# Altium footprint library Button_Switch_THT.PcbLib: 106 footprints (part 2 of 7)
Each footprint in its own frame and in the unit in brackets; x right, y up, seen from the top. Pads: shape width x height; smd on the part's side, far side on the other; paste and mask are expansions set on the pad; w line width, h text height; cw(c..) or ccw(c..) is an arc to the next point about the centre after c.
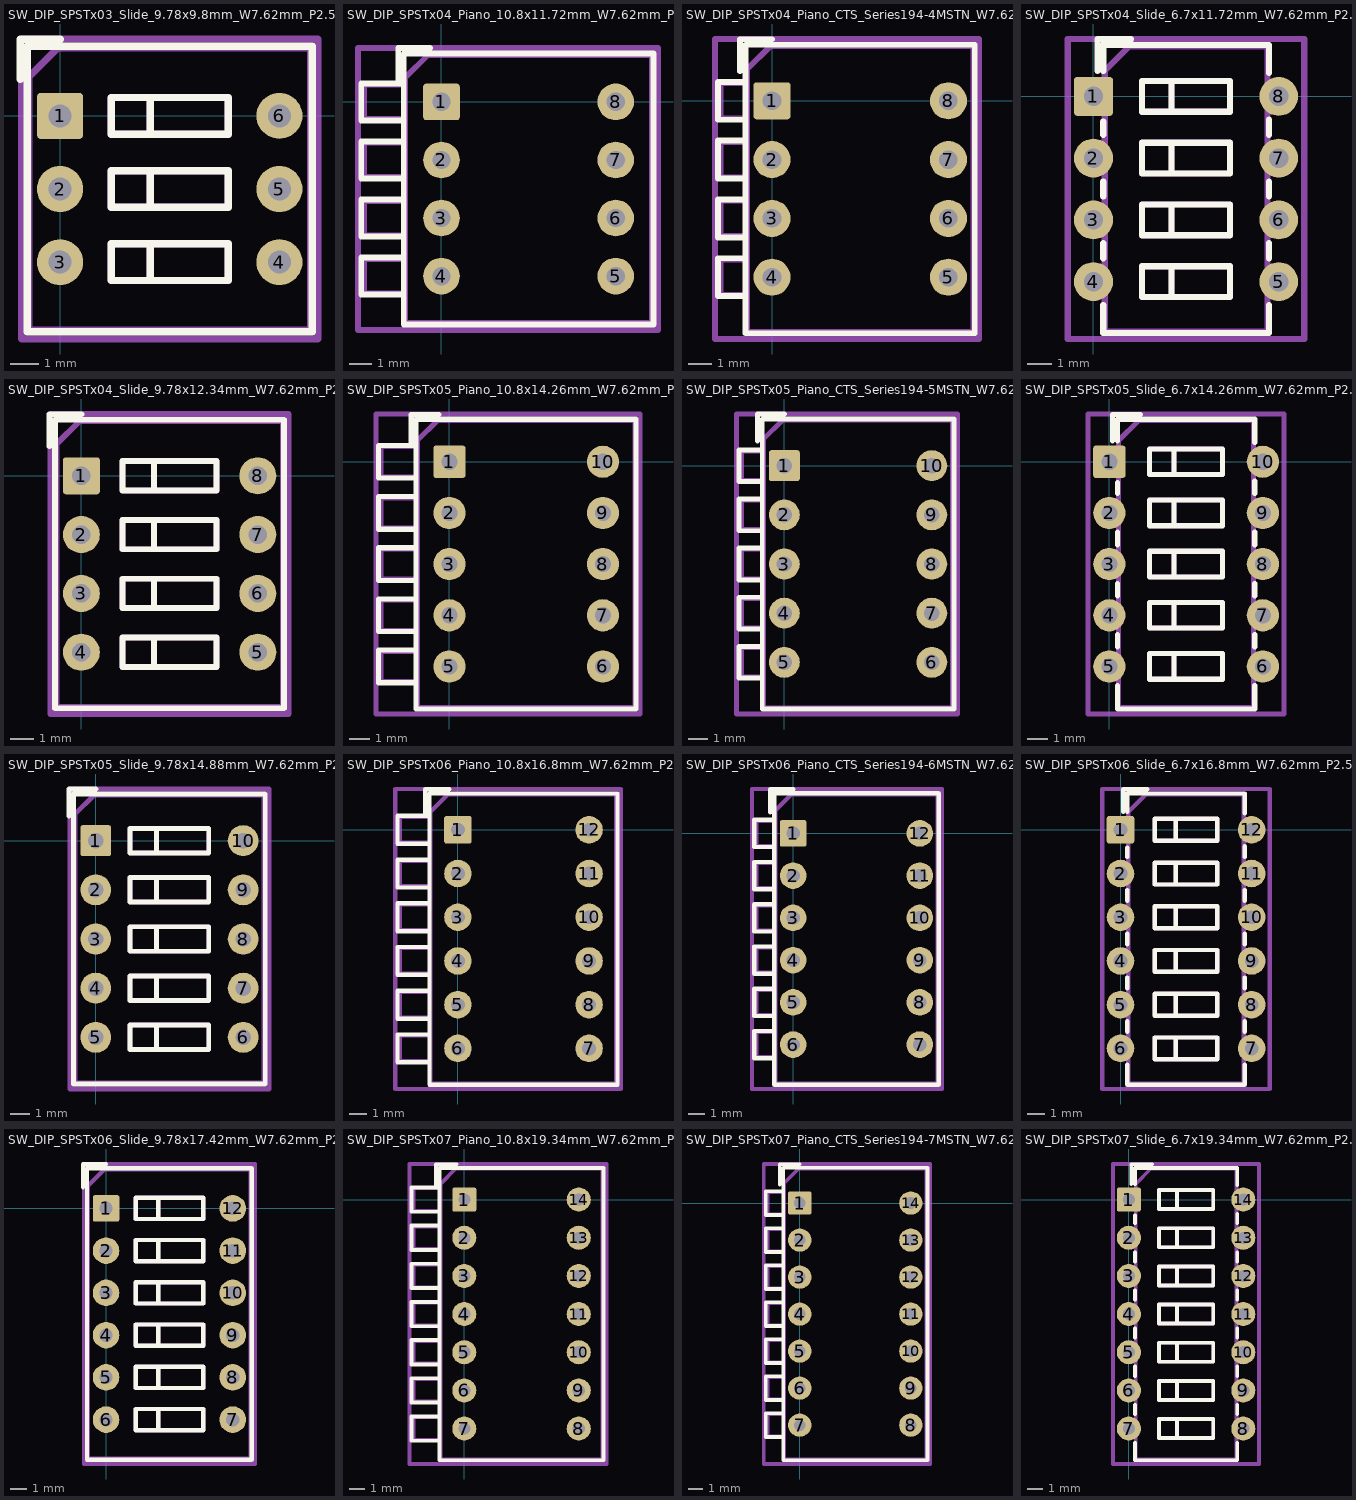
[diagram p1: the footprints below, top view; thin cyan lines are the x and y axes]

## SW_DIP_SPSTx03_Slide_9.78x9.8mm_W7.62mm_P2.54mm [mm]
pads (6):
  rrect16% 1.6x1.6 hole 0.8: 1(0,0)
  round 1.6 hole 0.8: 2(0,-2.54) 3(0,-5.08) 4(7.62,-5.08) 5(7.62,-2.54) 6(7.62,0)
F.SilkS:
  lines w0.254: -1.38,1.277 -1.38,2.66 0.003,2.66 ; 1.78,-5.715 1.78,-4.445 ; 1.78,-5.715 3.133,-5.715 ; 1.78,-5.715 1.78,-4.445 ; 1.78,-5.715 5.84,-5.715 5.84,-4.445 1.78,-4.445 ; 1.78,-4.445 3.133,-4.445 ; 1.78,-3.175 1.78,-1.905 ; 1.78,-3.175 3.133,-3.175 ; 1.78,-3.175 1.78,-1.905 ; 1.78,-3.175 5.84,-3.175 5.84,-1.905 1.78,-1.905 ; 1.78,-1.905 3.133,-1.905 ; 1.78,-0.635 1.78,0.635 ; 1.78,-0.635 3.133,-0.635 ; 1.78,-0.635 1.78,0.635 ; 1.78,-0.635 5.84,-0.635 5.84,0.635 1.78,0.635 ; 1.78,0.635 3.133,0.635 ; 3.133,-5.715 3.133,-4.445 ; 3.133,-5.715 3.133,-4.445 ; 3.133,-3.175 3.133,-1.905 ; 3.133,-3.175 3.133,-1.905 ; 3.133,-0.635 3.133,0.635 ; 3.133,-0.635 3.133,0.635 ; -1.14,-7.5 -1.14,2.42 8.76,2.42 8.76,-7.5 -1.14,-7.5
F.Fab:
  lines w0.254: 1.78,-5.715 1.78,-4.445 ; 1.78,-5.715 3.133,-5.715 ; 1.78,-5.715 1.78,-4.445 ; 1.78,-5.715 5.84,-5.715 5.84,-4.445 1.78,-4.445 ; 1.78,-4.445 3.133,-4.445 ; 1.78,-3.175 1.78,-1.905 ; 1.78,-3.175 3.133,-3.175 ; 1.78,-3.175 1.78,-1.905 ; 1.78,-3.175 5.84,-3.175 5.84,-1.905 1.78,-1.905 ; 1.78,-1.905 3.133,-1.905 ; 1.78,-0.635 1.78,0.635 ; 1.78,-0.635 3.133,-0.635 ; 1.78,-0.635 1.78,0.635 ; 1.78,-0.635 5.84,-0.635 5.84,0.635 1.78,0.635 ; 1.78,0.635 3.133,0.635 ; 3.133,-5.715 3.133,-4.445 ; 3.133,-5.715 3.133,-4.445 ; 3.133,-3.175 3.133,-1.905 ; 3.133,-3.175 3.133,-1.905 ; 3.133,-0.635 3.133,0.635 ; 3.133,-0.635 3.133,0.635 ; -1.08,-7.44 -1.08,1.36 -0.08,2.36 8.7,2.36 8.7,-7.44 -1.08,-7.44
  text "'.Designator'" at 7.942,-5.777 h0.8
  text "on" at 4.7,1.111 h0.8
F.CrtYd:
  lines w0.254: -1.33,-7.75 -1.33,2.67 8.95,2.67 8.95,-7.75 -1.33,-7.75

## SW_DIP_SPSTx04_Piano_10.8x11.72mm_W7.62mm_P2.54mm [mm]
pads (8):
  rrect16% 1.6x1.6 hole 0.8: 1(0,0)
  round 1.6 hole 0.8: 2(0,-2.54) 3(0,-5.08) 4(0,-7.62) 5(7.62,-7.62) 6(7.62,-5.08) 7(7.62,-2.54) 8(7.62,0)
F.SilkS:
  lines w0.254: -1.89,0.967 -1.89,2.35 -0.507,2.35 ; -3.51,-8.43 -3.51,-6.81 -1.65,-6.81 -1.65,-8.43 -3.51,-8.43 ; -3.51,-5.89 -3.51,-4.27 -1.65,-4.27 -1.65,-5.89 -3.51,-5.89 ; -3.51,-3.35 -3.51,-1.73 -1.65,-1.73 -1.65,-3.35 -3.51,-3.35 ; -3.51,-0.81 -3.51,0.81 -1.65,0.81 -1.65,-0.81 -3.51,-0.81 ; -1.65,-9.73 -1.65,2.11 9.27,2.11 9.27,-9.73 -1.65,-9.73
F.Fab:
  lines w0.254: -3.39,-8.37 -3.39,-6.87 -1.59,-6.87 -1.59,-8.37 -3.39,-8.37 ; -3.39,-5.83 -3.39,-4.33 -1.59,-4.33 -1.59,-5.83 -3.39,-5.83 ; -3.39,-3.29 -3.39,-1.79 -1.59,-1.79 -1.59,-3.29 -3.39,-3.29 ; -3.39,-0.75 -3.39,0.75 -1.59,0.75 -1.59,-0.75 -3.39,-0.75 ; -1.59,-9.67 -1.59,1.05 -0.59,2.05 9.21,2.05 9.21,-9.67 -1.59,-9.67
  text "'.Designator'" at 0.573,-4.482 h0.8
F.CrtYd:
  lines w0.254: -3.65,-9.98 -3.65,2.36 9.47,2.36 9.47,-9.98 -3.65,-9.98

## SW_DIP_SPSTx04_Piano_CTS_Series194-4MSTN_W7.62mm_P2.54mm [mm]
pads (8):
  rrect16% 1.6x1.6 hole 0.8: 1(0,0)
  round 1.6 hole 0.8: 2(0,-2.54) 3(0,-5.08) 4(0,-7.62) 5(7.62,-7.62) 6(7.62,-5.08) 7(7.62,-2.54) 8(7.62,0)
F.SilkS:
  lines w0.254: -1.38,1.277 -1.38,2.66 0.003,2.66 ; -2.34,-8.44 -2.34,-6.8 -1.14,-6.8 -1.14,-8.44 -2.34,-8.44 ; -2.34,-5.9 -2.34,-4.26 -1.14,-4.26 -1.14,-5.9 -2.34,-5.9 ; -2.34,-3.36 -2.34,-1.72 -1.14,-1.72 -1.14,-3.36 -2.34,-3.36 ; -2.34,-0.82 -2.34,0.82 -1.14,0.82 -1.14,-0.82 -2.34,-0.82 ; -1.14,-10.04 -1.14,2.42 8.76,2.42 8.76,-10.04 -1.14,-10.04
F.Fab:
  lines w0.254: -2.22,-8.38 -2.22,-6.86 -1.08,-6.86 -1.08,-8.38 -2.22,-8.38 ; -2.22,-5.84 -2.22,-4.32 -1.08,-4.32 -1.08,-5.84 -2.22,-5.84 ; -2.22,-3.3 -2.22,-1.78 -1.08,-1.78 -1.08,-3.3 -2.22,-3.3 ; -2.22,-0.76 -2.22,0.76 -1.08,0.76 -1.08,-0.76 -2.22,-0.76 ; -1.08,-9.98 -1.08,1.36 -0.08,2.36 8.7,2.36 8.7,-9.98 -1.08,-9.98
  text "'.Designator'" at 0.573,-4.482 h0.8
F.CrtYd:
  lines w0.254: -2.47,-10.29 -2.47,2.67 8.95,2.67 8.95,-10.29 -2.47,-10.29

## SW_DIP_SPSTx04_Slide_6.7x11.72mm_W7.62mm_P2.54mm_LowProfile [mm]
pads (8):
  rrect16% 1.6x1.6 hole 0.8: 1(0,0)
  round 1.6 hole 0.8: 2(0,-2.54) 3(0,-5.08) 4(0,-7.62) 5(7.62,-7.62) 6(7.62,-5.08) 7(7.62,-2.54) 8(7.62,0)
F.SilkS:
  lines w0.254: 0.16,1.04 0.16,2.35 1.543,2.35 ; 0.4,-8.58 0.4,-9.73 7.22,-9.73 7.22,-8.58 ; 0.4,-6.66 0.4,-6.04 ; 0.4,-4.12 0.4,-3.5 ; 0.4,-1.58 0.4,-1.04 ; 0.4,1.04 0.4,2.11 7.22,2.11 7.22,0.96 ; 7.22,-6.66 7.22,-6.04 ; 7.22,-4.12 7.22,-3.5 ; 7.22,-1.58 7.22,-0.96 ; 2,-8.255 2,-6.985 ; 2,-8.255 3.207,-8.255 ; 2,-8.255 2,-6.985 ; 2,-8.255 5.62,-8.255 5.62,-6.985 2,-6.985 ; 2,-6.985 3.207,-6.985 ; 2,-5.715 2,-4.445 ; 2,-5.715 3.207,-5.715 ; 2,-5.715 2,-4.445 ; 2,-5.715 5.62,-5.715 5.62,-4.445 2,-4.445 ; 2,-4.445 3.207,-4.445 ; 2,-3.175 2,-1.905 ; 2,-3.175 3.207,-3.175 ; 2,-3.175 2,-1.905 ; 2,-3.175 5.62,-3.175 5.62,-1.905 2,-1.905 ; 2,-1.905 3.207,-1.905 ; 2,-0.635 2,0.635 ; 2,-0.635 3.207,-0.635 ; 2,-0.635 2,0.635 ; 2,-0.635 5.62,-0.635 5.62,0.635 2,0.635 ; 2,0.635 3.207,0.635 ; 3.207,-8.255 3.207,-6.985 ; 3.207,-8.255 3.207,-6.985 ; 3.207,-5.715 3.207,-4.445 ; 3.207,-5.715 3.207,-4.445 ; 3.207,-3.175 3.207,-1.905 ; 3.207,-3.175 3.207,-1.905 ; 3.207,-0.635 3.207,0.635 ; 3.207,-0.635 3.207,0.635
F.Fab:
  lines w0.254: 2,-8.255 2,-6.985 ; 2,-8.255 3.207,-8.255 ; 2,-8.255 2,-6.985 ; 2,-8.255 5.62,-8.255 5.62,-6.985 2,-6.985 ; 2,-6.985 3.207,-6.985 ; 2,-5.715 2,-4.445 ; 2,-5.715 3.207,-5.715 ; 2,-5.715 2,-4.445 ; 2,-5.715 5.62,-5.715 5.62,-4.445 2,-4.445 ; 2,-4.445 3.207,-4.445 ; 2,-3.175 2,-1.905 ; 2,-3.175 3.207,-3.175 ; 2,-3.175 2,-1.905 ; 2,-3.175 5.62,-3.175 5.62,-1.905 2,-1.905 ; 2,-1.905 3.207,-1.905 ; 2,-0.635 2,0.635 ; 2,-0.635 3.207,-0.635 ; 2,-0.635 2,0.635 ; 2,-0.635 5.62,-0.635 5.62,0.635 2,0.635 ; 2,0.635 3.207,0.635 ; 3.207,-8.255 3.207,-6.985 ; 3.207,-8.255 3.207,-6.985 ; 3.207,-5.715 3.207,-4.445 ; 3.207,-5.715 3.207,-4.445 ; 3.207,-3.175 3.207,-1.905 ; 3.207,-3.175 3.207,-1.905 ; 3.207,-0.635 3.207,0.635 ; 3.207,-0.635 3.207,0.635 ; 0.46,-9.67 0.46,1.05 1.46,2.05 7.16,2.05 7.16,-9.67 0.46,-9.67
  text "'.Designator'" at 7.062,-7.047 h0.8
  text "on" at 3.82,0.956 h0.8
F.CrtYd:
  lines w0.254: -1.06,-9.98 -1.06,2.36 8.67,2.36 8.67,-9.98 -1.06,-9.98

## SW_DIP_SPSTx04_Slide_9.78x12.34mm_W7.62mm_P2.54mm [mm]
pads (8):
  rrect16% 1.6x1.6 hole 0.8: 1(0,0)
  round 1.6 hole 0.8: 2(0,-2.54) 3(0,-5.08) 4(0,-7.62) 5(7.62,-7.62) 6(7.62,-5.08) 7(7.62,-2.54) 8(7.62,0)
F.SilkS:
  lines w0.254: -1.38,1.277 -1.38,2.66 0.003,2.66 ; 1.78,-8.255 1.78,-6.985 ; 1.78,-8.255 3.133,-8.255 ; 1.78,-8.255 1.78,-6.985 ; 1.78,-8.255 5.84,-8.255 5.84,-6.985 1.78,-6.985 ; 1.78,-6.985 3.133,-6.985 ; 1.78,-5.715 1.78,-4.445 ; 1.78,-5.715 3.133,-5.715 ; 1.78,-5.715 1.78,-4.445 ; 1.78,-5.715 5.84,-5.715 5.84,-4.445 1.78,-4.445 ; 1.78,-4.445 3.133,-4.445 ; 1.78,-3.175 1.78,-1.905 ; 1.78,-3.175 3.133,-3.175 ; 1.78,-3.175 1.78,-1.905 ; 1.78,-3.175 5.84,-3.175 5.84,-1.905 1.78,-1.905 ; 1.78,-1.905 3.133,-1.905 ; 1.78,-0.635 1.78,0.635 ; 1.78,-0.635 3.133,-0.635 ; 1.78,-0.635 1.78,0.635 ; 1.78,-0.635 5.84,-0.635 5.84,0.635 1.78,0.635 ; 1.78,0.635 3.133,0.635 ; 3.133,-8.255 3.133,-6.985 ; 3.133,-8.255 3.133,-6.985 ; 3.133,-5.715 3.133,-4.445 ; 3.133,-5.715 3.133,-4.445 ; 3.133,-3.175 3.133,-1.905 ; 3.133,-3.175 3.133,-1.905 ; 3.133,-0.635 3.133,0.635 ; 3.133,-0.635 3.133,0.635 ; -1.14,-10.04 -1.14,2.42 8.76,2.42 8.76,-10.04 -1.14,-10.04
F.Fab:
  lines w0.254: 1.78,-8.255 1.78,-6.985 ; 1.78,-8.255 3.133,-8.255 ; 1.78,-8.255 1.78,-6.985 ; 1.78,-8.255 5.84,-8.255 5.84,-6.985 1.78,-6.985 ; 1.78,-6.985 3.133,-6.985 ; 1.78,-5.715 1.78,-4.445 ; 1.78,-5.715 3.133,-5.715 ; 1.78,-5.715 1.78,-4.445 ; 1.78,-5.715 5.84,-5.715 5.84,-4.445 1.78,-4.445 ; 1.78,-4.445 3.133,-4.445 ; 1.78,-3.175 1.78,-1.905 ; 1.78,-3.175 3.133,-3.175 ; 1.78,-3.175 1.78,-1.905 ; 1.78,-3.175 5.84,-3.175 5.84,-1.905 1.78,-1.905 ; 1.78,-1.905 3.133,-1.905 ; 1.78,-0.635 1.78,0.635 ; 1.78,-0.635 3.133,-0.635 ; 1.78,-0.635 1.78,0.635 ; 1.78,-0.635 5.84,-0.635 5.84,0.635 1.78,0.635 ; 1.78,0.635 3.133,0.635 ; 3.133,-8.255 3.133,-6.985 ; 3.133,-8.255 3.133,-6.985 ; 3.133,-5.715 3.133,-4.445 ; 3.133,-5.715 3.133,-4.445 ; 3.133,-3.175 3.133,-1.905 ; 3.133,-3.175 3.133,-1.905 ; 3.133,-0.635 3.133,0.635 ; 3.133,-0.635 3.133,0.635 ; -1.08,-9.98 -1.08,1.36 -0.08,2.36 8.7,2.36 8.7,-9.98 -1.08,-9.98
  text "'.Designator'" at 7.942,-7.047 h0.8
  text "on" at 4.7,1.111 h0.8
F.CrtYd:
  lines w0.254: -1.33,-10.29 -1.33,2.67 8.95,2.67 8.95,-10.29 -1.33,-10.29

## SW_DIP_SPSTx05_Piano_10.8x14.26mm_W7.62mm_P2.54mm [mm]
pads (10):
  rrect16% 1.6x1.6 hole 0.8: 1(0,0)
  round 1.6 hole 0.8: 2(0,-2.54) 3(0,-5.08) 4(0,-7.62) 5(0,-10.16) 6(7.62,-10.16) 7(7.62,-7.62) 8(7.62,-5.08) 9(7.62,-2.54) 10(7.62,0)
F.SilkS:
  lines w0.254: -1.89,0.967 -1.89,2.35 -0.507,2.35 ; -3.51,-10.97 -3.51,-9.35 -1.65,-9.35 -1.65,-10.97 -3.51,-10.97 ; -3.51,-8.43 -3.51,-6.81 -1.65,-6.81 -1.65,-8.43 -3.51,-8.43 ; -3.51,-5.89 -3.51,-4.27 -1.65,-4.27 -1.65,-5.89 -3.51,-5.89 ; -3.51,-3.35 -3.51,-1.73 -1.65,-1.73 -1.65,-3.35 -3.51,-3.35 ; -3.51,-0.81 -3.51,0.81 -1.65,0.81 -1.65,-0.81 -3.51,-0.81 ; -1.65,-12.27 -1.65,2.11 9.27,2.11 9.27,-12.27 -1.65,-12.27
F.Fab:
  lines w0.254: -3.39,-10.91 -3.39,-9.41 -1.59,-9.41 -1.59,-10.91 -3.39,-10.91 ; -3.39,-8.37 -3.39,-6.87 -1.59,-6.87 -1.59,-8.37 -3.39,-8.37 ; -3.39,-5.83 -3.39,-4.33 -1.59,-4.33 -1.59,-5.83 -3.39,-5.83 ; -3.39,-3.29 -3.39,-1.79 -1.59,-1.79 -1.59,-3.29 -3.39,-3.29 ; -3.39,-0.75 -3.39,0.75 -1.59,0.75 -1.59,-0.75 -3.39,-0.75 ; -1.59,-12.21 -1.59,1.05 -0.59,2.05 9.21,2.05 9.21,-12.21 -1.59,-12.21
  text "'.Designator'" at 0.573,-5.752 h0.8
F.CrtYd:
  lines w0.254: -3.65,-12.52 -3.65,2.37 9.47,2.37 9.47,-12.52 -3.65,-12.52

## SW_DIP_SPSTx05_Piano_CTS_Series194-5MSTN_W7.62mm_P2.54mm [mm]
pads (10):
  rrect16% 1.6x1.6 hole 0.8: 1(0,0)
  round 1.6 hole 0.8: 2(0,-2.54) 3(0,-5.08) 4(0,-7.62) 5(0,-10.16) 6(7.62,-10.16) 7(7.62,-7.62) 8(7.62,-5.08) 9(7.62,-2.54) 10(7.62,0)
F.SilkS:
  lines w0.254: -1.38,1.277 -1.38,2.66 0.003,2.66 ; -2.34,-10.98 -2.34,-9.34 -1.14,-9.34 -1.14,-10.98 -2.34,-10.98 ; -2.34,-8.44 -2.34,-6.8 -1.14,-6.8 -1.14,-8.44 -2.34,-8.44 ; -2.34,-5.9 -2.34,-4.26 -1.14,-4.26 -1.14,-5.9 -2.34,-5.9 ; -2.34,-3.36 -2.34,-1.72 -1.14,-1.72 -1.14,-3.36 -2.34,-3.36 ; -2.34,-0.82 -2.34,0.82 -1.14,0.82 -1.14,-0.82 -2.34,-0.82 ; -1.14,-12.58 -1.14,2.42 8.76,2.42 8.76,-12.58 -1.14,-12.58
F.Fab:
  lines w0.254: -2.22,-10.92 -2.22,-9.4 -1.08,-9.4 -1.08,-10.92 -2.22,-10.92 ; -2.22,-8.38 -2.22,-6.86 -1.08,-6.86 -1.08,-8.38 -2.22,-8.38 ; -2.22,-5.84 -2.22,-4.32 -1.08,-4.32 -1.08,-5.84 -2.22,-5.84 ; -2.22,-3.3 -2.22,-1.78 -1.08,-1.78 -1.08,-3.3 -2.22,-3.3 ; -2.22,-0.76 -2.22,0.76 -1.08,0.76 -1.08,-0.76 -2.22,-0.76 ; -1.08,-12.52 -1.08,1.36 -0.08,2.36 8.7,2.36 8.7,-12.52 -1.08,-12.52
  text "'.Designator'" at 0.573,-5.752 h0.8
F.CrtYd:
  lines w0.254: -2.47,-12.83 -2.47,2.67 8.95,2.67 8.95,-12.83 -2.47,-12.83

## SW_DIP_SPSTx05_Slide_6.7x14.26mm_W7.62mm_P2.54mm_LowProfile [mm]
pads (10):
  rrect16% 1.6x1.6 hole 0.8: 1(0,0)
  round 1.6 hole 0.8: 2(0,-2.54) 3(0,-5.08) 4(0,-7.62) 5(0,-10.16) 6(7.62,-10.16) 7(7.62,-7.62) 8(7.62,-5.08) 9(7.62,-2.54) 10(7.62,0)
F.SilkS:
  lines w0.254: 0.16,1.04 0.16,2.35 1.543,2.35 ; 0.4,-11.12 0.4,-12.27 7.22,-12.27 7.22,-11.12 ; 0.4,-9.2 0.4,-8.58 ; 0.4,-6.66 0.4,-6.04 ; 0.4,-4.12 0.4,-3.5 ; 0.4,-1.58 0.4,-1.04 ; 0.4,1.04 0.4,2.11 7.22,2.11 7.22,0.96 ; 7.22,-9.2 7.22,-8.58 ; 7.22,-6.66 7.22,-6.04 ; 7.22,-4.12 7.22,-3.5 ; 7.22,-1.58 7.22,-0.96 ; 2,-10.795 2,-9.525 ; 2,-10.795 3.207,-10.795 ; 2,-10.795 2,-9.525 ; 2,-10.795 5.62,-10.795 5.62,-9.525 2,-9.525 ; 2,-9.525 3.207,-9.525 ; 2,-8.255 2,-6.985 ; 2,-8.255 3.207,-8.255 ; 2,-8.255 2,-6.985 ; 2,-8.255 5.62,-8.255 5.62,-6.985 2,-6.985 ; 2,-6.985 3.207,-6.985 ; 2,-5.715 2,-4.445 ; 2,-5.715 3.207,-5.715 ; 2,-5.715 2,-4.445 ; 2,-5.715 5.62,-5.715 5.62,-4.445 2,-4.445 ; 2,-4.445 3.207,-4.445 ; 2,-3.175 2,-1.905 ; 2,-3.175 3.207,-3.175 ; 2,-3.175 2,-1.905 ; 2,-3.175 5.62,-3.175 5.62,-1.905 2,-1.905 ; 2,-1.905 3.207,-1.905 ; 2,-0.635 2,0.635 ; 2,-0.635 3.207,-0.635 ; 2,-0.635 2,0.635 ; 2,-0.635 5.62,-0.635 5.62,0.635 2,0.635 ; 2,0.635 3.207,0.635 ; 3.207,-10.795 3.207,-9.525 ; 3.207,-10.795 3.207,-9.525 ; 3.207,-8.255 3.207,-6.985 ; 3.207,-8.255 3.207,-6.985 ; 3.207,-5.715 3.207,-4.445 ; 3.207,-5.715 3.207,-4.445 ; 3.207,-3.175 3.207,-1.905 ; 3.207,-3.175 3.207,-1.905 ; 3.207,-0.635 3.207,0.635 ; 3.207,-0.635 3.207,0.635
F.Fab:
  lines w0.254: 2,-10.795 2,-9.525 ; 2,-10.795 3.207,-10.795 ; 2,-10.795 2,-9.525 ; 2,-10.795 5.62,-10.795 5.62,-9.525 2,-9.525 ; 2,-9.525 3.207,-9.525 ; 2,-8.255 2,-6.985 ; 2,-8.255 3.207,-8.255 ; 2,-8.255 2,-6.985 ; 2,-8.255 5.62,-8.255 5.62,-6.985 2,-6.985 ; 2,-6.985 3.207,-6.985 ; 2,-5.715 2,-4.445 ; 2,-5.715 3.207,-5.715 ; 2,-5.715 2,-4.445 ; 2,-5.715 5.62,-5.715 5.62,-4.445 2,-4.445 ; 2,-4.445 3.207,-4.445 ; 2,-3.175 2,-1.905 ; 2,-3.175 3.207,-3.175 ; 2,-3.175 2,-1.905 ; 2,-3.175 5.62,-3.175 5.62,-1.905 2,-1.905 ; 2,-1.905 3.207,-1.905 ; 2,-0.635 2,0.635 ; 2,-0.635 3.207,-0.635 ; 2,-0.635 2,0.635 ; 2,-0.635 5.62,-0.635 5.62,0.635 2,0.635 ; 2,0.635 3.207,0.635 ; 3.207,-10.795 3.207,-9.525 ; 3.207,-10.795 3.207,-9.525 ; 3.207,-8.255 3.207,-6.985 ; 3.207,-8.255 3.207,-6.985 ; 3.207,-5.715 3.207,-4.445 ; 3.207,-5.715 3.207,-4.445 ; 3.207,-3.175 3.207,-1.905 ; 3.207,-3.175 3.207,-1.905 ; 3.207,-0.635 3.207,0.635 ; 3.207,-0.635 3.207,0.635 ; 0.46,-12.21 0.46,1.05 1.46,2.05 7.16,2.05 7.16,-12.21 0.46,-12.21
  text "'.Designator'" at 7.062,-8.317 h0.8
  text "on" at 3.82,0.956 h0.8
F.CrtYd:
  lines w0.254: -1.06,-12.52 -1.06,2.37 8.67,2.37 8.67,-12.52 -1.06,-12.52

## SW_DIP_SPSTx05_Slide_9.78x14.88mm_W7.62mm_P2.54mm [mm]
pads (10):
  rrect16% 1.6x1.6 hole 0.8: 1(0,0)
  round 1.6 hole 0.8: 2(0,-2.54) 3(0,-5.08) 4(0,-7.62) 5(0,-10.16) 6(7.62,-10.16) 7(7.62,-7.62) 8(7.62,-5.08) 9(7.62,-2.54) 10(7.62,0)
F.SilkS:
  lines w0.254: -1.38,1.277 -1.38,2.66 0.003,2.66 ; 1.78,-10.795 1.78,-9.525 ; 1.78,-10.795 3.133,-10.795 ; 1.78,-10.795 1.78,-9.525 ; 1.78,-10.795 5.84,-10.795 5.84,-9.525 1.78,-9.525 ; 1.78,-9.525 3.133,-9.525 ; 1.78,-8.255 1.78,-6.985 ; 1.78,-8.255 3.133,-8.255 ; 1.78,-8.255 1.78,-6.985 ; 1.78,-8.255 5.84,-8.255 5.84,-6.985 1.78,-6.985 ; 1.78,-6.985 3.133,-6.985 ; 1.78,-5.715 1.78,-4.445 ; 1.78,-5.715 3.133,-5.715 ; 1.78,-5.715 1.78,-4.445 ; 1.78,-5.715 5.84,-5.715 5.84,-4.445 1.78,-4.445 ; 1.78,-4.445 3.133,-4.445 ; 1.78,-3.175 1.78,-1.905 ; 1.78,-3.175 3.133,-3.175 ; 1.78,-3.175 1.78,-1.905 ; 1.78,-3.175 5.84,-3.175 5.84,-1.905 1.78,-1.905 ; 1.78,-1.905 3.133,-1.905 ; 1.78,-0.635 1.78,0.635 ; 1.78,-0.635 3.133,-0.635 ; 1.78,-0.635 1.78,0.635 ; 1.78,-0.635 5.84,-0.635 5.84,0.635 1.78,0.635 ; 1.78,0.635 3.133,0.635 ; 3.133,-10.795 3.133,-9.525 ; 3.133,-10.795 3.133,-9.525 ; 3.133,-8.255 3.133,-6.985 ; 3.133,-8.255 3.133,-6.985 ; 3.133,-5.715 3.133,-4.445 ; 3.133,-5.715 3.133,-4.445 ; 3.133,-3.175 3.133,-1.905 ; 3.133,-3.175 3.133,-1.905 ; 3.133,-0.635 3.133,0.635 ; 3.133,-0.635 3.133,0.635 ; -1.14,-12.58 -1.14,2.42 8.76,2.42 8.76,-12.58 -1.14,-12.58
F.Fab:
  lines w0.254: 1.78,-10.795 1.78,-9.525 ; 1.78,-10.795 3.133,-10.795 ; 1.78,-10.795 1.78,-9.525 ; 1.78,-10.795 5.84,-10.795 5.84,-9.525 1.78,-9.525 ; 1.78,-9.525 3.133,-9.525 ; 1.78,-8.255 1.78,-6.985 ; 1.78,-8.255 3.133,-8.255 ; 1.78,-8.255 1.78,-6.985 ; 1.78,-8.255 5.84,-8.255 5.84,-6.985 1.78,-6.985 ; 1.78,-6.985 3.133,-6.985 ; 1.78,-5.715 1.78,-4.445 ; 1.78,-5.715 3.133,-5.715 ; 1.78,-5.715 1.78,-4.445 ; 1.78,-5.715 5.84,-5.715 5.84,-4.445 1.78,-4.445 ; 1.78,-4.445 3.133,-4.445 ; 1.78,-3.175 1.78,-1.905 ; 1.78,-3.175 3.133,-3.175 ; 1.78,-3.175 1.78,-1.905 ; 1.78,-3.175 5.84,-3.175 5.84,-1.905 1.78,-1.905 ; 1.78,-1.905 3.133,-1.905 ; 1.78,-0.635 1.78,0.635 ; 1.78,-0.635 3.133,-0.635 ; 1.78,-0.635 1.78,0.635 ; 1.78,-0.635 5.84,-0.635 5.84,0.635 1.78,0.635 ; 1.78,0.635 3.133,0.635 ; 3.133,-10.795 3.133,-9.525 ; 3.133,-10.795 3.133,-9.525 ; 3.133,-8.255 3.133,-6.985 ; 3.133,-8.255 3.133,-6.985 ; 3.133,-5.715 3.133,-4.445 ; 3.133,-5.715 3.133,-4.445 ; 3.133,-3.175 3.133,-1.905 ; 3.133,-3.175 3.133,-1.905 ; 3.133,-0.635 3.133,0.635 ; 3.133,-0.635 3.133,0.635 ; -1.08,-12.52 -1.08,1.36 -0.08,2.36 8.7,2.36 8.7,-12.52 -1.08,-12.52
  text "'.Designator'" at 7.942,-8.317 h0.8
  text "on" at 4.7,1.111 h0.8
F.CrtYd:
  lines w0.254: -1.33,-12.83 -1.33,2.67 8.95,2.67 8.95,-12.83 -1.33,-12.83

## SW_DIP_SPSTx06_Piano_10.8x16.8mm_W7.62mm_P2.54mm [mm]
pads (12):
  rrect16% 1.6x1.6 hole 0.8: 1(0,0)
  round 1.6 hole 0.8: 2(0,-2.54) 3(0,-5.08) 4(0,-7.62) 5(0,-10.16) 6(0,-12.7) 7(7.62,-12.7) 8(7.62,-10.16) 9(7.62,-7.62) 10(7.62,-5.08) 11(7.62,-2.54) 12(7.62,0)
F.SilkS:
  lines w0.254: -1.89,0.967 -1.89,2.35 -0.507,2.35 ; -3.51,-13.51 -3.51,-11.89 -1.65,-11.89 -1.65,-13.51 -3.51,-13.51 ; -3.51,-10.97 -3.51,-9.35 -1.65,-9.35 -1.65,-10.97 -3.51,-10.97 ; -3.51,-8.43 -3.51,-6.81 -1.65,-6.81 -1.65,-8.43 -3.51,-8.43 ; -3.51,-5.89 -3.51,-4.27 -1.65,-4.27 -1.65,-5.89 -3.51,-5.89 ; -3.51,-3.35 -3.51,-1.73 -1.65,-1.73 -1.65,-3.35 -3.51,-3.35 ; -3.51,-0.81 -3.51,0.81 -1.65,0.81 -1.65,-0.81 -3.51,-0.81 ; -1.65,-14.81 -1.65,2.11 9.27,2.11 9.27,-14.81 -1.65,-14.81
F.Fab:
  lines w0.254: -3.39,-13.45 -3.39,-11.95 -1.59,-11.95 -1.59,-13.45 -3.39,-13.45 ; -3.39,-10.91 -3.39,-9.41 -1.59,-9.41 -1.59,-10.91 -3.39,-10.91 ; -3.39,-8.37 -3.39,-6.87 -1.59,-6.87 -1.59,-8.37 -3.39,-8.37 ; -3.39,-5.83 -3.39,-4.33 -1.59,-4.33 -1.59,-5.83 -3.39,-5.83 ; -3.39,-3.29 -3.39,-1.79 -1.59,-1.79 -1.59,-3.29 -3.39,-3.29 ; -3.39,-0.75 -3.39,0.75 -1.59,0.75 -1.59,-0.75 -3.39,-0.75 ; -1.59,-14.75 -1.59,1.05 -0.59,2.05 9.21,2.05 9.21,-14.75 -1.59,-14.75
  text "'.Designator'" at 0.573,-7.022 h0.8
F.CrtYd:
  lines w0.254: -3.65,-15.06 -3.65,2.37 9.47,2.37 9.47,-15.06 -3.65,-15.06

## SW_DIP_SPSTx06_Piano_CTS_Series194-6MSTN_W7.62mm_P2.54mm [mm]
pads (12):
  rrect16% 1.6x1.6 hole 0.8: 1(0,0)
  round 1.6 hole 0.8: 2(0,-2.54) 3(0,-5.08) 4(0,-7.62) 5(0,-10.16) 6(0,-12.7) 7(7.62,-12.7) 8(7.62,-10.16) 9(7.62,-7.62) 10(7.62,-5.08) 11(7.62,-2.54) 12(7.62,0)
F.SilkS:
  lines w0.254: -1.38,1.277 -1.38,2.66 0.003,2.66 ; -2.34,-13.52 -2.34,-11.88 -1.14,-11.88 -1.14,-13.52 -2.34,-13.52 ; -2.34,-10.98 -2.34,-9.34 -1.14,-9.34 -1.14,-10.98 -2.34,-10.98 ; -2.34,-8.44 -2.34,-6.8 -1.14,-6.8 -1.14,-8.44 -2.34,-8.44 ; -2.34,-5.9 -2.34,-4.26 -1.14,-4.26 -1.14,-5.9 -2.34,-5.9 ; -2.34,-3.36 -2.34,-1.72 -1.14,-1.72 -1.14,-3.36 -2.34,-3.36 ; -2.34,-0.82 -2.34,0.82 -1.14,0.82 -1.14,-0.82 -2.34,-0.82 ; -1.14,-15.12 -1.14,2.42 8.76,2.42 8.76,-15.12 -1.14,-15.12
F.Fab:
  lines w0.254: -2.22,-13.46 -2.22,-11.94 -1.08,-11.94 -1.08,-13.46 -2.22,-13.46 ; -2.22,-10.92 -2.22,-9.4 -1.08,-9.4 -1.08,-10.92 -2.22,-10.92 ; -2.22,-8.38 -2.22,-6.86 -1.08,-6.86 -1.08,-8.38 -2.22,-8.38 ; -2.22,-5.84 -2.22,-4.32 -1.08,-4.32 -1.08,-5.84 -2.22,-5.84 ; -2.22,-3.3 -2.22,-1.78 -1.08,-1.78 -1.08,-3.3 -2.22,-3.3 ; -2.22,-0.76 -2.22,0.76 -1.08,0.76 -1.08,-0.76 -2.22,-0.76 ; -1.08,-15.06 -1.08,1.36 -0.08,2.36 8.7,2.36 8.7,-15.06 -1.08,-15.06
  text "'.Designator'" at 0.573,-7.022 h0.8
F.CrtYd:
  lines w0.254: -2.47,-15.37 -2.47,2.67 8.95,2.67 8.95,-15.37 -2.47,-15.37

## SW_DIP_SPSTx06_Slide_6.7x16.8mm_W7.62mm_P2.54mm_LowProfile [mm]
pads (12):
  rrect16% 1.6x1.6 hole 0.8: 1(0,0)
  round 1.6 hole 0.8: 2(0,-2.54) 3(0,-5.08) 4(0,-7.62) 5(0,-10.16) 6(0,-12.7) 7(7.62,-12.7) 8(7.62,-10.16) 9(7.62,-7.62) 10(7.62,-5.08) 11(7.62,-2.54) 12(7.62,0)
F.SilkS:
  lines w0.254: 0.16,1.04 0.16,2.35 1.543,2.35 ; 0.4,-13.66 0.4,-14.81 7.22,-14.81 7.22,-13.66 ; 0.4,-11.74 0.4,-11.12 ; 0.4,-9.2 0.4,-8.58 ; 0.4,-6.66 0.4,-6.04 ; 0.4,-4.12 0.4,-3.5 ; 0.4,-1.58 0.4,-1.04 ; 0.4,1.04 0.4,2.11 7.22,2.11 7.22,0.96 ; 7.22,-11.74 7.22,-11.12 ; 7.22,-9.2 7.22,-8.58 ; 7.22,-6.66 7.22,-6.04 ; 7.22,-4.12 7.22,-3.5 ; 7.22,-1.58 7.22,-0.96 ; 2,-13.335 2,-12.065 ; 2,-13.335 3.207,-13.335 ; 2,-13.335 2,-12.065 ; 2,-13.335 5.62,-13.335 5.62,-12.065 2,-12.065 ; 2,-12.065 3.207,-12.065 ; 2,-10.795 2,-9.525 ; 2,-10.795 3.207,-10.795 ; 2,-10.795 2,-9.525 ; 2,-10.795 5.62,-10.795 5.62,-9.525 2,-9.525 ; 2,-9.525 3.207,-9.525 ; 2,-8.255 2,-6.985 ; 2,-8.255 3.207,-8.255 ; 2,-8.255 2,-6.985 ; 2,-8.255 5.62,-8.255 5.62,-6.985 2,-6.985 ; 2,-6.985 3.207,-6.985 ; 2,-5.715 2,-4.445 ; 2,-5.715 3.207,-5.715 ; 2,-5.715 2,-4.445 ; 2,-5.715 5.62,-5.715 5.62,-4.445 2,-4.445 ; 2,-4.445 3.207,-4.445 ; 2,-3.175 2,-1.905 ; 2,-3.175 3.207,-3.175 ; 2,-3.175 2,-1.905 ; 2,-3.175 5.62,-3.175 5.62,-1.905 2,-1.905 ; 2,-1.905 3.207,-1.905 ; 2,-0.635 2,0.635 ; 2,-0.635 3.207,-0.635 ; 2,-0.635 2,0.635 ; 2,-0.635 5.62,-0.635 5.62,0.635 2,0.635 ; 2,0.635 3.207,0.635 ; 3.207,-13.335 3.207,-12.065 ; 3.207,-13.335 3.207,-12.065 ; 3.207,-10.795 3.207,-9.525 ; 3.207,-10.795 3.207,-9.525 ; 3.207,-8.255 3.207,-6.985 ; 3.207,-8.255 3.207,-6.985 ; 3.207,-5.715 3.207,-4.445 ; 3.207,-5.715 3.207,-4.445 ; 3.207,-3.175 3.207,-1.905 ; 3.207,-3.175 3.207,-1.905 ; 3.207,-0.635 3.207,0.635 ; 3.207,-0.635 3.207,0.635
F.Fab:
  lines w0.254: 2,-13.335 2,-12.065 ; 2,-13.335 3.207,-13.335 ; 2,-13.335 2,-12.065 ; 2,-13.335 5.62,-13.335 5.62,-12.065 2,-12.065 ; 2,-12.065 3.207,-12.065 ; 2,-10.795 2,-9.525 ; 2,-10.795 3.207,-10.795 ; 2,-10.795 2,-9.525 ; 2,-10.795 5.62,-10.795 5.62,-9.525 2,-9.525 ; 2,-9.525 3.207,-9.525 ; 2,-8.255 2,-6.985 ; 2,-8.255 3.207,-8.255 ; 2,-8.255 2,-6.985 ; 2,-8.255 5.62,-8.255 5.62,-6.985 2,-6.985 ; 2,-6.985 3.207,-6.985 ; 2,-5.715 2,-4.445 ; 2,-5.715 3.207,-5.715 ; 2,-5.715 2,-4.445 ; 2,-5.715 5.62,-5.715 5.62,-4.445 2,-4.445 ; 2,-4.445 3.207,-4.445 ; 2,-3.175 2,-1.905 ; 2,-3.175 3.207,-3.175 ; 2,-3.175 2,-1.905 ; 2,-3.175 5.62,-3.175 5.62,-1.905 2,-1.905 ; 2,-1.905 3.207,-1.905 ; 2,-0.635 2,0.635 ; 2,-0.635 3.207,-0.635 ; 2,-0.635 2,0.635 ; 2,-0.635 5.62,-0.635 5.62,0.635 2,0.635 ; 2,0.635 3.207,0.635 ; 3.207,-13.335 3.207,-12.065 ; 3.207,-13.335 3.207,-12.065 ; 3.207,-10.795 3.207,-9.525 ; 3.207,-10.795 3.207,-9.525 ; 3.207,-8.255 3.207,-6.985 ; 3.207,-8.255 3.207,-6.985 ; 3.207,-5.715 3.207,-4.445 ; 3.207,-5.715 3.207,-4.445 ; 3.207,-3.175 3.207,-1.905 ; 3.207,-3.175 3.207,-1.905 ; 3.207,-0.635 3.207,0.635 ; 3.207,-0.635 3.207,0.635 ; 0.46,-14.75 0.46,1.05 1.46,2.05 7.16,2.05 7.16,-14.75 0.46,-14.75
  text "'.Designator'" at 7.062,-9.587 h0.8
  text "on" at 3.82,0.956 h0.8
F.CrtYd:
  lines w0.254: -1.06,-15.06 -1.06,2.37 8.67,2.37 8.67,-15.06 -1.06,-15.06

## SW_DIP_SPSTx06_Slide_9.78x17.42mm_W7.62mm_P2.54mm [mm]
pads (12):
  rrect16% 1.6x1.6 hole 0.8: 1(0,0)
  round 1.6 hole 0.8: 2(0,-2.54) 3(0,-5.08) 4(0,-7.62) 5(0,-10.16) 6(0,-12.7) 7(7.62,-12.7) 8(7.62,-10.16) 9(7.62,-7.62) 10(7.62,-5.08) 11(7.62,-2.54) 12(7.62,0)
F.SilkS:
  lines w0.254: -1.38,1.277 -1.38,2.66 0.003,2.66 ; 1.78,-13.335 1.78,-12.065 ; 1.78,-13.335 3.133,-13.335 ; 1.78,-13.335 1.78,-12.065 ; 1.78,-13.335 5.84,-13.335 5.84,-12.065 1.78,-12.065 ; 1.78,-12.065 3.133,-12.065 ; 1.78,-10.795 1.78,-9.525 ; 1.78,-10.795 3.133,-10.795 ; 1.78,-10.795 1.78,-9.525 ; 1.78,-10.795 5.84,-10.795 5.84,-9.525 1.78,-9.525 ; 1.78,-9.525 3.133,-9.525 ; 1.78,-8.255 1.78,-6.985 ; 1.78,-8.255 3.133,-8.255 ; 1.78,-8.255 1.78,-6.985 ; 1.78,-8.255 5.84,-8.255 5.84,-6.985 1.78,-6.985 ; 1.78,-6.985 3.133,-6.985 ; 1.78,-5.715 1.78,-4.445 ; 1.78,-5.715 3.133,-5.715 ; 1.78,-5.715 1.78,-4.445 ; 1.78,-5.715 5.84,-5.715 5.84,-4.445 1.78,-4.445 ; 1.78,-4.445 3.133,-4.445 ; 1.78,-3.175 1.78,-1.905 ; 1.78,-3.175 3.133,-3.175 ; 1.78,-3.175 1.78,-1.905 ; 1.78,-3.175 5.84,-3.175 5.84,-1.905 1.78,-1.905 ; 1.78,-1.905 3.133,-1.905 ; 1.78,-0.635 1.78,0.635 ; 1.78,-0.635 3.133,-0.635 ; 1.78,-0.635 1.78,0.635 ; 1.78,-0.635 5.84,-0.635 5.84,0.635 1.78,0.635 ; 1.78,0.635 3.133,0.635 ; 3.133,-13.335 3.133,-12.065 ; 3.133,-13.335 3.133,-12.065 ; 3.133,-10.795 3.133,-9.525 ; 3.133,-10.795 3.133,-9.525 ; 3.133,-8.255 3.133,-6.985 ; 3.133,-8.255 3.133,-6.985 ; 3.133,-5.715 3.133,-4.445 ; 3.133,-5.715 3.133,-4.445 ; 3.133,-3.175 3.133,-1.905 ; 3.133,-3.175 3.133,-1.905 ; 3.133,-0.635 3.133,0.635 ; 3.133,-0.635 3.133,0.635 ; -1.14,-15.12 -1.14,2.42 8.76,2.42 8.76,-15.12 -1.14,-15.12
F.Fab:
  lines w0.254: 1.78,-13.335 1.78,-12.065 ; 1.78,-13.335 3.133,-13.335 ; 1.78,-13.335 1.78,-12.065 ; 1.78,-13.335 5.84,-13.335 5.84,-12.065 1.78,-12.065 ; 1.78,-12.065 3.133,-12.065 ; 1.78,-10.795 1.78,-9.525 ; 1.78,-10.795 3.133,-10.795 ; 1.78,-10.795 1.78,-9.525 ; 1.78,-10.795 5.84,-10.795 5.84,-9.525 1.78,-9.525 ; 1.78,-9.525 3.133,-9.525 ; 1.78,-8.255 1.78,-6.985 ; 1.78,-8.255 3.133,-8.255 ; 1.78,-8.255 1.78,-6.985 ; 1.78,-8.255 5.84,-8.255 5.84,-6.985 1.78,-6.985 ; 1.78,-6.985 3.133,-6.985 ; 1.78,-5.715 1.78,-4.445 ; 1.78,-5.715 3.133,-5.715 ; 1.78,-5.715 1.78,-4.445 ; 1.78,-5.715 5.84,-5.715 5.84,-4.445 1.78,-4.445 ; 1.78,-4.445 3.133,-4.445 ; 1.78,-3.175 1.78,-1.905 ; 1.78,-3.175 3.133,-3.175 ; 1.78,-3.175 1.78,-1.905 ; 1.78,-3.175 5.84,-3.175 5.84,-1.905 1.78,-1.905 ; 1.78,-1.905 3.133,-1.905 ; 1.78,-0.635 1.78,0.635 ; 1.78,-0.635 3.133,-0.635 ; 1.78,-0.635 1.78,0.635 ; 1.78,-0.635 5.84,-0.635 5.84,0.635 1.78,0.635 ; 1.78,0.635 3.133,0.635 ; 3.133,-13.335 3.133,-12.065 ; 3.133,-13.335 3.133,-12.065 ; 3.133,-10.795 3.133,-9.525 ; 3.133,-10.795 3.133,-9.525 ; 3.133,-8.255 3.133,-6.985 ; 3.133,-8.255 3.133,-6.985 ; 3.133,-5.715 3.133,-4.445 ; 3.133,-5.715 3.133,-4.445 ; 3.133,-3.175 3.133,-1.905 ; 3.133,-3.175 3.133,-1.905 ; 3.133,-0.635 3.133,0.635 ; 3.133,-0.635 3.133,0.635 ; -1.08,-15.06 -1.08,1.36 -0.08,2.36 8.7,2.36 8.7,-15.06 -1.08,-15.06
  text "'.Designator'" at 7.942,-9.587 h0.8
  text "on" at 4.7,1.111 h0.8
F.CrtYd:
  lines w0.254: -1.33,-15.37 -1.33,2.67 8.95,2.67 8.95,-15.37 -1.33,-15.37

## SW_DIP_SPSTx07_Piano_10.8x19.34mm_W7.62mm_P2.54mm [mm]
pads (14):
  rrect16% 1.6x1.6 hole 0.8: 1(0,0)
  round 1.6 hole 0.8: 2(0,-2.54) 3(0,-5.08) 4(0,-7.62) 5(0,-10.16) 6(0,-12.7) 7(0,-15.24) 8(7.62,-15.24) 9(7.62,-12.7) 10(7.62,-10.16) 11(7.62,-7.62) 12(7.62,-5.08) 13(7.62,-2.54) 14(7.62,0)
F.SilkS:
  lines w0.254: -1.89,0.967 -1.89,2.35 -0.507,2.35 ; -3.51,-16.05 -3.51,-14.43 -1.65,-14.43 -1.65,-16.05 -3.51,-16.05 ; -3.51,-13.51 -3.51,-11.89 -1.65,-11.89 -1.65,-13.51 -3.51,-13.51 ; -3.51,-10.97 -3.51,-9.35 -1.65,-9.35 -1.65,-10.97 -3.51,-10.97 ; -3.51,-8.43 -3.51,-6.81 -1.65,-6.81 -1.65,-8.43 -3.51,-8.43 ; -3.51,-5.89 -3.51,-4.27 -1.65,-4.27 -1.65,-5.89 -3.51,-5.89 ; -3.51,-3.35 -3.51,-1.73 -1.65,-1.73 -1.65,-3.35 -3.51,-3.35 ; -3.51,-0.81 -3.51,0.81 -1.65,0.81 -1.65,-0.81 -3.51,-0.81 ; -1.65,-17.35 -1.65,2.11 9.27,2.11 9.27,-17.35 -1.65,-17.35
F.Fab:
  lines w0.254: -3.39,-15.99 -3.39,-14.49 -1.59,-14.49 -1.59,-15.99 -3.39,-15.99 ; -3.39,-13.45 -3.39,-11.95 -1.59,-11.95 -1.59,-13.45 -3.39,-13.45 ; -3.39,-10.91 -3.39,-9.41 -1.59,-9.41 -1.59,-10.91 -3.39,-10.91 ; -3.39,-8.37 -3.39,-6.87 -1.59,-6.87 -1.59,-8.37 -3.39,-8.37 ; -3.39,-5.83 -3.39,-4.33 -1.59,-4.33 -1.59,-5.83 -3.39,-5.83 ; -3.39,-3.29 -3.39,-1.79 -1.59,-1.79 -1.59,-3.29 -3.39,-3.29 ; -3.39,-0.75 -3.39,0.75 -1.59,0.75 -1.59,-0.75 -3.39,-0.75 ; -1.59,-17.29 -1.59,1.05 -0.59,2.05 9.21,2.05 9.21,-17.29 -1.59,-17.29
  text "'.Designator'" at 0.573,-8.292 h0.8
F.CrtYd:
  lines w0.254: -3.65,-17.6 -3.65,2.37 9.47,2.37 9.47,-17.6 -3.65,-17.6

## SW_DIP_SPSTx07_Piano_CTS_Series194-7MSTN_W7.62mm_P2.54mm [mm]
pads (14):
  rrect16% 1.6x1.6 hole 0.8: 1(0,0)
  round 1.6 hole 0.8: 2(0,-2.54) 3(0,-5.08) 4(0,-7.62) 5(0,-10.16) 6(0,-12.7) 7(0,-15.24) 8(7.62,-15.24) 9(7.62,-12.7) 10(7.62,-10.16) 11(7.62,-7.62) 12(7.62,-5.08) 13(7.62,-2.54) 14(7.62,0)
F.SilkS:
  lines w0.254: -1.38,1.277 -1.38,2.66 0.003,2.66 ; -2.34,-16.06 -2.34,-14.42 -1.14,-14.42 -1.14,-16.06 -2.34,-16.06 ; -2.34,-13.52 -2.34,-11.88 -1.14,-11.88 -1.14,-13.52 -2.34,-13.52 ; -2.34,-10.98 -2.34,-9.34 -1.14,-9.34 -1.14,-10.98 -2.34,-10.98 ; -2.34,-8.44 -2.34,-6.8 -1.14,-6.8 -1.14,-8.44 -2.34,-8.44 ; -2.34,-5.9 -2.34,-4.26 -1.14,-4.26 -1.14,-5.9 -2.34,-5.9 ; -2.34,-3.36 -2.34,-1.72 -1.14,-1.72 -1.14,-3.36 -2.34,-3.36 ; -2.34,-0.82 -2.34,0.82 -1.14,0.82 -1.14,-0.82 -2.34,-0.82 ; -1.14,-17.66 -1.14,2.42 8.76,2.42 8.76,-17.66 -1.14,-17.66
F.Fab:
  lines w0.254: -2.22,-16 -2.22,-14.48 -1.08,-14.48 -1.08,-16 -2.22,-16 ; -2.22,-13.46 -2.22,-11.94 -1.08,-11.94 -1.08,-13.46 -2.22,-13.46 ; -2.22,-10.92 -2.22,-9.4 -1.08,-9.4 -1.08,-10.92 -2.22,-10.92 ; -2.22,-8.38 -2.22,-6.86 -1.08,-6.86 -1.08,-8.38 -2.22,-8.38 ; -2.22,-5.84 -2.22,-4.32 -1.08,-4.32 -1.08,-5.84 -2.22,-5.84 ; -2.22,-3.3 -2.22,-1.78 -1.08,-1.78 -1.08,-3.3 -2.22,-3.3 ; -2.22,-0.76 -2.22,0.76 -1.08,0.76 -1.08,-0.76 -2.22,-0.76 ; -1.08,-17.6 -1.08,1.36 -0.08,2.36 8.7,2.36 8.7,-17.6 -1.08,-17.6
  text "'.Designator'" at 0.573,-8.292 h0.8
F.CrtYd:
  lines w0.254: -2.47,-17.91 -2.47,2.68 8.95,2.68 8.95,-17.91 -2.47,-17.91

## SW_DIP_SPSTx07_Slide_6.7x19.34mm_W7.62mm_P2.54mm_LowProfile [mm]
pads (14):
  rrect16% 1.6x1.6 hole 0.8: 1(0,0)
  round 1.6 hole 0.8: 2(0,-2.54) 3(0,-5.08) 4(0,-7.62) 5(0,-10.16) 6(0,-12.7) 7(0,-15.24) 8(7.62,-15.24) 9(7.62,-12.7) 10(7.62,-10.16) 11(7.62,-7.62) 12(7.62,-5.08) 13(7.62,-2.54) 14(7.62,0)
F.SilkS:
  lines w0.254: 0.16,1.04 0.16,2.35 1.543,2.35 ; 0.4,-16.2 0.4,-17.35 7.22,-17.35 7.22,-16.2 ; 0.4,-14.28 0.4,-13.66 ; 0.4,-11.74 0.4,-11.12 ; 0.4,-9.2 0.4,-8.58 ; 0.4,-6.66 0.4,-6.04 ; 0.4,-4.12 0.4,-3.5 ; 0.4,-1.58 0.4,-1.04 ; 0.4,1.04 0.4,2.11 7.22,2.11 7.22,0.96 ; 7.22,-14.28 7.22,-13.66 ; 7.22,-11.74 7.22,-11.12 ; 7.22,-9.2 7.22,-8.58 ; 7.22,-6.66 7.22,-6.04 ; 7.22,-4.12 7.22,-3.5 ; 7.22,-1.58 7.22,-0.96 ; 2,-15.875 2,-14.605 ; 2,-15.875 3.207,-15.875 ; 2,-15.875 2,-14.605 ; 2,-15.875 5.62,-15.875 5.62,-14.605 2,-14.605 ; 2,-14.605 3.207,-14.605 ; 2,-13.335 2,-12.065 ; 2,-13.335 3.207,-13.335 ; 2,-13.335 2,-12.065 ; 2,-13.335 5.62,-13.335 5.62,-12.065 2,-12.065 ; 2,-12.065 3.207,-12.065 ; 2,-10.795 2,-9.525 ; 2,-10.795 3.207,-10.795 ; 2,-10.795 2,-9.525 ; 2,-10.795 5.62,-10.795 5.62,-9.525 2,-9.525 ; 2,-9.525 3.207,-9.525 ; 2,-8.255 2,-6.985 ; 2,-8.255 3.207,-8.255 ; 2,-8.255 2,-6.985 ; 2,-8.255 5.62,-8.255 5.62,-6.985 2,-6.985 ; 2,-6.985 3.207,-6.985 ; 2,-5.715 2,-4.445 ; 2,-5.715 3.207,-5.715 ; 2,-5.715 2,-4.445 ; 2,-5.715 5.62,-5.715 5.62,-4.445 2,-4.445 ; 2,-4.445 3.207,-4.445 ; 2,-3.175 2,-1.905 ; 2,-3.175 3.207,-3.175 ; 2,-3.175 2,-1.905 ; 2,-3.175 5.62,-3.175 5.62,-1.905 2,-1.905 ; 2,-1.905 3.207,-1.905 ; 2,-0.635 2,0.635 ; 2,-0.635 3.207,-0.635 ; 2,-0.635 2,0.635 ; 2,-0.635 5.62,-0.635 5.62,0.635 2,0.635 ; 2,0.635 3.207,0.635 ; 3.207,-15.875 3.207,-14.605 ; 3.207,-15.875 3.207,-14.605 ; 3.207,-13.335 3.207,-12.065 ; 3.207,-13.335 3.207,-12.065 ; 3.207,-10.795 3.207,-9.525 ; 3.207,-10.795 3.207,-9.525 ; 3.207,-8.255 3.207,-6.985 ; 3.207,-8.255 3.207,-6.985 ; 3.207,-5.715 3.207,-4.445 ; 3.207,-5.715 3.207,-4.445 ; 3.207,-3.175 3.207,-1.905 ; 3.207,-3.175 3.207,-1.905 ; 3.207,-0.635 3.207,0.635 ; 3.207,-0.635 3.207,0.635
F.Fab:
  lines w0.254: 2,-15.875 2,-14.605 ; 2,-15.875 3.207,-15.875 ; 2,-15.875 2,-14.605 ; 2,-15.875 5.62,-15.875 5.62,-14.605 2,-14.605 ; 2,-14.605 3.207,-14.605 ; 2,-13.335 2,-12.065 ; 2,-13.335 3.207,-13.335 ; 2,-13.335 2,-12.065 ; 2,-13.335 5.62,-13.335 5.62,-12.065 2,-12.065 ; 2,-12.065 3.207,-12.065 ; 2,-10.795 2,-9.525 ; 2,-10.795 3.207,-10.795 ; 2,-10.795 2,-9.525 ; 2,-10.795 5.62,-10.795 5.62,-9.525 2,-9.525 ; 2,-9.525 3.207,-9.525 ; 2,-8.255 2,-6.985 ; 2,-8.255 3.207,-8.255 ; 2,-8.255 2,-6.985 ; 2,-8.255 5.62,-8.255 5.62,-6.985 2,-6.985 ; 2,-6.985 3.207,-6.985 ; 2,-5.715 2,-4.445 ; 2,-5.715 3.207,-5.715 ; 2,-5.715 2,-4.445 ; 2,-5.715 5.62,-5.715 5.62,-4.445 2,-4.445 ; 2,-4.445 3.207,-4.445 ; 2,-3.175 2,-1.905 ; 2,-3.175 3.207,-3.175 ; 2,-3.175 2,-1.905 ; 2,-3.175 5.62,-3.175 5.62,-1.905 2,-1.905 ; 2,-1.905 3.207,-1.905 ; 2,-0.635 2,0.635 ; 2,-0.635 3.207,-0.635 ; 2,-0.635 2,0.635 ; 2,-0.635 5.62,-0.635 5.62,0.635 2,0.635 ; 2,0.635 3.207,0.635 ; 3.207,-15.875 3.207,-14.605 ; 3.207,-15.875 3.207,-14.605 ; 3.207,-13.335 3.207,-12.065 ; 3.207,-13.335 3.207,-12.065 ; 3.207,-10.795 3.207,-9.525 ; 3.207,-10.795 3.207,-9.525 ; 3.207,-8.255 3.207,-6.985 ; 3.207,-8.255 3.207,-6.985 ; 3.207,-5.715 3.207,-4.445 ; 3.207,-5.715 3.207,-4.445 ; 3.207,-3.175 3.207,-1.905 ; 3.207,-3.175 3.207,-1.905 ; 3.207,-0.635 3.207,0.635 ; 3.207,-0.635 3.207,0.635 ; 0.46,-17.29 0.46,1.05 1.46,2.05 7.16,2.05 7.16,-17.29 0.46,-17.29
  text "'.Designator'" at 7.062,-10.857 h0.8
  text "on" at 3.82,0.956 h0.8
F.CrtYd:
  lines w0.254: -1.06,-17.6 -1.06,2.37 8.67,2.37 8.67,-17.6 -1.06,-17.6